# Altium integrated library Celestial Library.IntLib: 439 symbols (part 4 of 20)

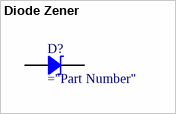
[diagram p69: symbol Diode Zener]

## Diode Zener
designator D?
Zener Diode
pins: 1, 2


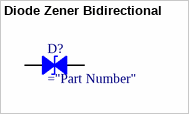
[diagram p70: symbol Diode Zener Bidirectional]

## Diode Zener Bidirectional
designator D?
Bidirectional Zener Diode
pins: 1, 2


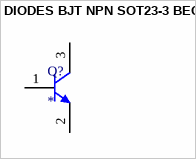
[diagram p71: symbol DIODES BJT NPN SOT23-3 BEC]

## DIODES BJT NPN SOT23-3 BEC
designator Q?
pins: 1 B, 2 E, 3 C


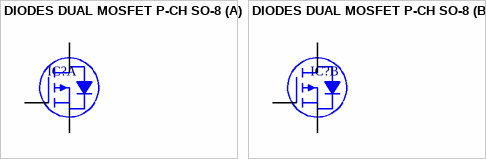
[diagram p72: symbol DIODES DUAL MOSFET P-CH SO-8]

## DIODES DUAL MOSFET P-CH SO-8
designator IC?
part A pins: 1 S1, 2 G1, 7 D1, 8 D1
part B pins: 3 S2, 4 G2, 5 D2, 6 D2


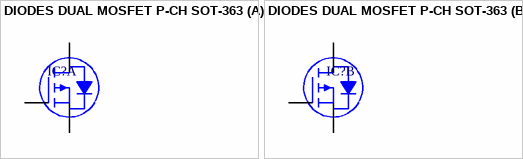
[diagram p73: symbol DIODES DUAL MOSFET P-CH SOT-363]

## DIODES DUAL MOSFET P-CH SOT-363
designator IC?
part A pins: 1 S1, 2 G1, 6 D1
part B pins: 3 D2, 4 S2, 5 G2


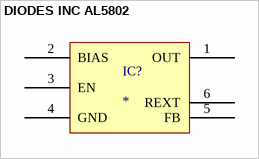
[diagram p74: symbol DIODES INC AL5802]

## DIODES INC AL5802
designator IC?
pins: 1 OUT, 2 BIAS, 3 EN, 4 GND, 5 FB, 6 REXT


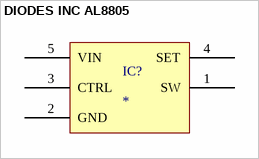
[diagram p75: symbol DIODES INC AL8805]

## DIODES INC AL8805
designator IC?
pins: 1 SW, 2 GND, 3 CTRL, 4 SET, 5 VIN


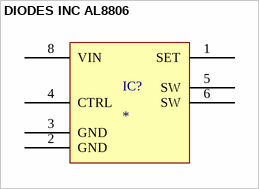
[diagram p76: symbol DIODES INC AL8806]

## DIODES INC AL8806
designator IC?
pins: 1 SET, 2 GND, 3 GND, 4 CTRL, 5 SW, 6 SW, 8 VIN


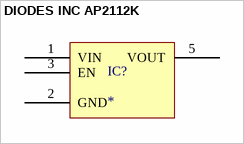
[diagram p77: symbol DIODES INC AP2112K]

## DIODES INC AP2112K
designator IC?
pins: 1 VIN, 2 GND, 3 EN, 5 VOUT


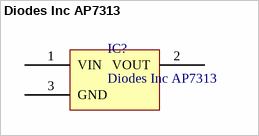
[diagram p78: symbol Diodes Inc AP7313]

## Diodes Inc AP7313
designator IC?
150mA Low quiescent current fast transient low drop out linear regulator
pins: 1 VIN, 2 VOUT, 3 GND


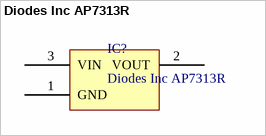
[diagram p79: symbol Diodes Inc AP7313R]

## Diodes Inc AP7313R
designator IC?
150mA Low quiescent current fast transient low drop out linear regulator
pins: 1 GND, 2 VOUT, 3 VIN


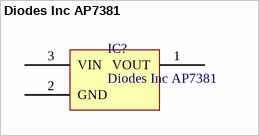
[diagram p80: symbol Diodes Inc AP7381]

## Diodes Inc AP7381
designator IC?
150mA Low quiescent current fast transient low drop out linear regulator
pins: 1 VOUT, 2 GND, 3 VIN


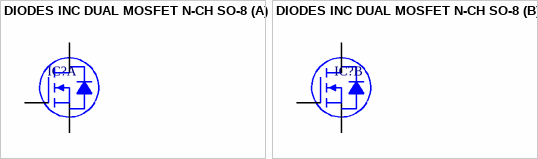
[diagram p81: symbol DIODES INC DUAL MOSFET N-CH SO-8]

## DIODES INC DUAL MOSFET N-CH SO-8
designator IC?
part A pins: 1 S1, 2 G1, 7 D1, 8 D1
part B pins: 3 S2, 4 G2, 5 D2, 6 D2


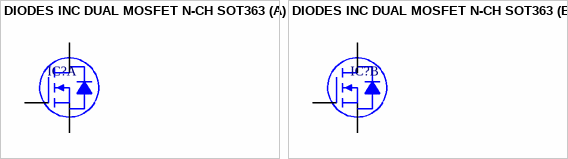
[diagram p82: symbol DIODES INC DUAL MOSFET N-CH SOT363]

## DIODES INC DUAL MOSFET N-CH SOT363
designator IC?
part A pins: 3 D1, 4 S1, 5 G1
part B pins: 1 S2, 2 G2, 6 D2


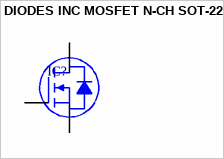
[diagram p83: symbol DIODES INC MOSFET N-CH SOT-223]

## DIODES INC MOSFET N-CH SOT-223
designator IC?
pins: 1 G, 2 D, 3 S, 4 D


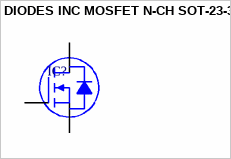
[diagram p84: symbol DIODES INC MOSFET N-CH SOT-23-3]

## DIODES INC MOSFET N-CH SOT-23-3
designator IC?
pins: 1 G, 2 S, 3 D


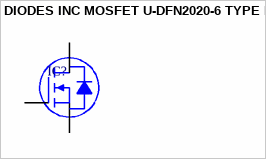
[diagram p85: symbol DIODES INC MOSFET U-DFN2020-6 TYPE E]

## DIODES INC MOSFET U-DFN2020-6 TYPE E
designator IC?
pins: 1 D, 1 5, 1 6, 1 D, 2 D, 2 D, 3 G, 4 S, 5 D, 6 D


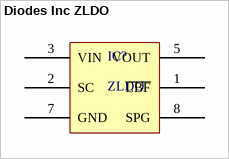
[diagram p86: symbol Diodes Inc ZLDO]

## Diodes Inc ZLDO
designator IC?, comment ZLDO
Diodes Inc 5.0 VOLT ULTRA LOW DROPOUT  REGULATOR
pins: 1 ~{LBF} "Low Battery Flag", 2 SC "Shutdown Control", 3 VIN, 5 VOUT "1uF or greater", 7 GND, 8 SPG "Shaping - 10pF to Vout"


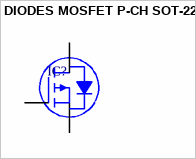
[diagram p87: symbol DIODES MOSFET P-CH SOT-223]

## DIODES MOSFET P-CH SOT-223
designator IC?
pins: 1 G, 2 D, 3 S, 4 D


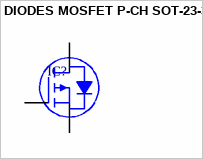
[diagram p88: symbol DIODES MOSFET P-CH SOT-23-3]

## DIODES MOSFET P-CH SOT-23-3
designator IC?
pins: 1 G, 2 S, 3 D


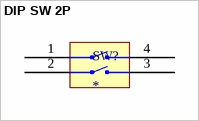
[diagram p89: symbol DIP SW 2P]

## DIP SW 2P
designator SW?
pins: 1 GND, 2 GND, 3 GND, 4 GND


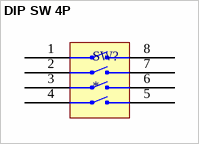
[diagram p90: symbol DIP SW 4P]

## DIP SW 4P
designator SW?
pins: 1 GND, 2 GND, 3 GND, 4 GND, 5, 6, 7, 8


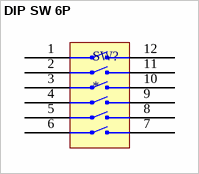
[diagram p91: symbol DIP SW 6P]

## DIP SW 6P
designator SW?
pins: 1 GND, 2 GND, 3 GND, 4 GND, 5, 6, 7, 8, 9, 10, 11, 12
